# Altium schematic symbol library SMBJ12CA.SchLib: 1 symbol
Pins are listed as number, name and electrical type; pins without a type are passive.

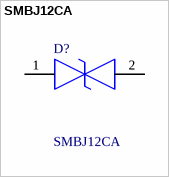
[diagram p0: symbol SMBJ12CA]

## SMBJ12CA
designator D?
BOURNS - SMBJ12CA - TVS DIODE, 600W, 12V, BIDIR, DO-214AA; Geometry.Height: 2.44mm; Mouser Part Number: 652-SMBJ12CA; Mouser Price/Stock: https://www.mouser.co.uk/ProductDetail/Bourns/SMBJ12CA?qs=d7fLapxX37HuPPjHuz97DA%3D%3D; Manufacturer_Name: Bourns; Manufacturer_Part_Number: SMBJ12CA; Datasheet Link: https://datasheet.datasheetarchive.com/originals/distributors/Datasheets-DGA26/1840764.pdf
footprint DIONM5443X244N
pins: 1, 2